# EAGLE library part PIC18F26K80 (library JLB6_Processor)
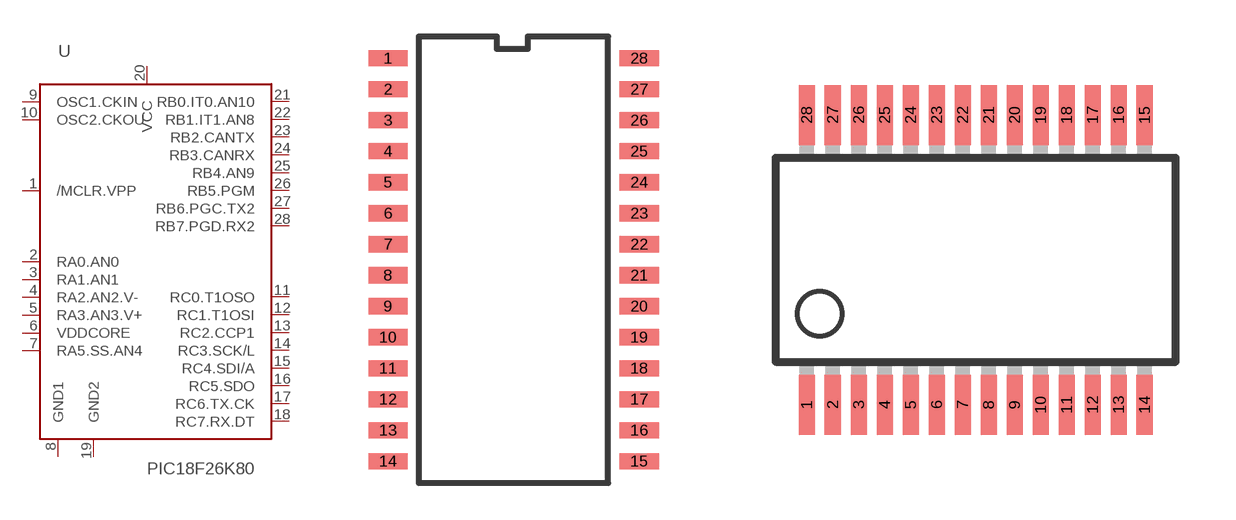
[diagram p30: symbol with the pads of SO28-300; footprints SO28-300, SSOP28]

Designator prefix U

## PIC18F26K80SO  [SO28-300]
1  /MCLR.VPP
2  RA0.AN0
3  RA1.AN1
4  RA2.AN2.V-
5  RA3.AN3.V+
6  VDDCORE
7  RA5.SS.AN4
8  GND1  pwr
9  OSC1.CKIN  in
10  OSC2.CKOU  out
11  RC0.T1OSO
12  RC1.T1OSI
13  RC2.CCP1
14  RC3.SCK/L
15  RC4.SDI/A
16  RC5.SDO
17  RC6.TX.CK
18  RC7.RX.DT
19  GND2  pwr
20  VCC  pwr
21  RB0.IT0.AN10
22  RB1.IT1.AN8
23  RB2.CANTX
24  RB3.CANRX
25  RB4.AN9
26  RB5.PGM
27  RB6.PGC.TX2
28  RB7.PGD.RX2

## PIC18F26K80SS  [SSOP28]
Pads as for SO28-300

## Footprint SO28-300 (pad centres in mm)
smd 1.6 x 0.66: 1 -5.207,8.255; 2 -5.207,6.985; 3 -5.207,5.715; 4 -5.207,4.445; 5 -5.207,3.175; 6 -5.207,1.905; 7 -5.207,0.635; 8 -5.207,-0.635; 9 -5.207,-1.905; 10 -5.207,-3.175; 11 -5.207,-4.445; 12 -5.207,-5.715; 13 -5.207,-6.985; 14 -5.207,-8.255; 15 5.08,-8.255; 16 5.08,-6.985; 17 5.08,-5.715; 18 5.08,-4.445; 19 5.08,-3.175; 20 5.08,-1.905; 21 5.08,-0.635; 22 5.08,0.635; 23 5.08,1.905; 24 5.08,3.175; 25 5.08,4.445; 26 5.08,5.715; 27 5.08,6.985; 28 5.08,8.255

## Footprint SSOP28 (pad centres in mm)
Shrink Small Outline Package package type SS
smd 0.4 x 1.5: 1 -4.225,-3.625; 2 -3.575,-3.625; 3 -2.925,-3.625; 4 -2.275,-3.625; 5 -1.625,-3.625; 6 -0.975,-3.625; 7 -0.325,-3.625; 8 0.325,-3.625; 9 0.975,-3.625; 10 1.625,-3.625; 11 2.275,-3.625; 12 2.925,-3.625; 13 3.575,-3.625; 14 4.225,-3.625; 15 4.225,3.625; 16 3.575,3.625; 17 2.925,3.625; 18 2.275,3.625; 19 1.625,3.625; 20 0.975,3.625; 21 0.325,3.625; 22 -0.325,3.625; 23 -0.975,3.625; 24 -1.625,3.625; 25 -2.275,3.625; 26 -2.925,3.625; 27 -3.575,3.625; 28 -4.225,3.625